# EAGLE library part CD4013 (library IC & Transistor)
SMD Flip Flop CD4013
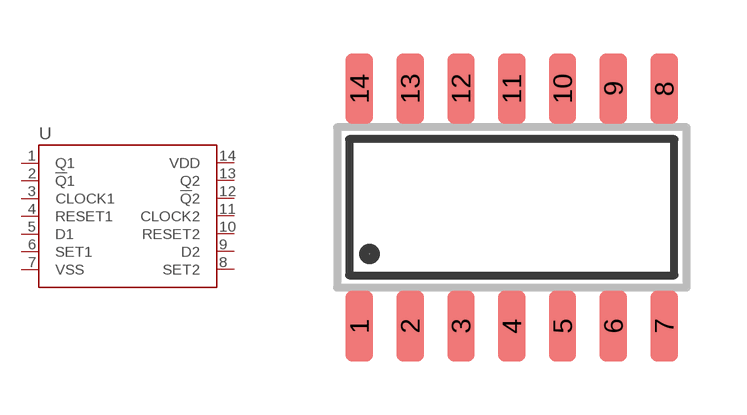
[diagram p48: symbol with the pads of SOIC-14N; footprint SOIC-14N]

Designator prefix -

## CD4013_(SOIC-14N) (CYTRON-PC: S-IC-CD4013-SO14; DESC: S Flip Flop CD4013 SO14; MF: TEXAS INSTRUMENTS; MPN: CD4013BM)  [SOIC-14N]
1  Q1
2  !Q!1
3  CLOCK1
4  RESET1
5  D1
6  SET1
7  VSS  pwr
8  SET2
9  D2
10  RESET2
11  CLOCK2
12  !Q!2
13  Q2
14  VDD  pwr

## Footprint SOIC-14N (pad centres in mm)
Small Outline Integrated Circuit (SOIC) Narrow (JEDEC) SOIC Package Size: 8.65 x 3.90mm Lead Pitch: 1.27mm Created by: Idris Modified by: Wai Weng 1. Changed the orientation.
smd 0.686 x 1.778: 1 -3.81,-2.972; 2 -2.54,-2.972; 3 -1.27,-2.972; 4 0,-2.972; 5 1.27,-2.972; 6 2.54,-2.972; 7 3.81,-2.972; 8 3.81,2.972; 9 2.54,2.972; 10 1.27,2.972; 11 0,2.972; 12 -1.27,2.972; 13 -2.54,2.972; 14 -3.81,2.972